# Altium footprint library G6K-2F-Y-DC5.PcbLib: 1 footprints
Each footprint in its own frame and in the unit in brackets; x right, y up, seen from the top. Pads: shape width x height; smd on the part's side, far side on the other; paste and mask are expansions set on the pad; w line width, h text height; cw(c..) or ccw(c..) is an arc to the next point about the centre after c.
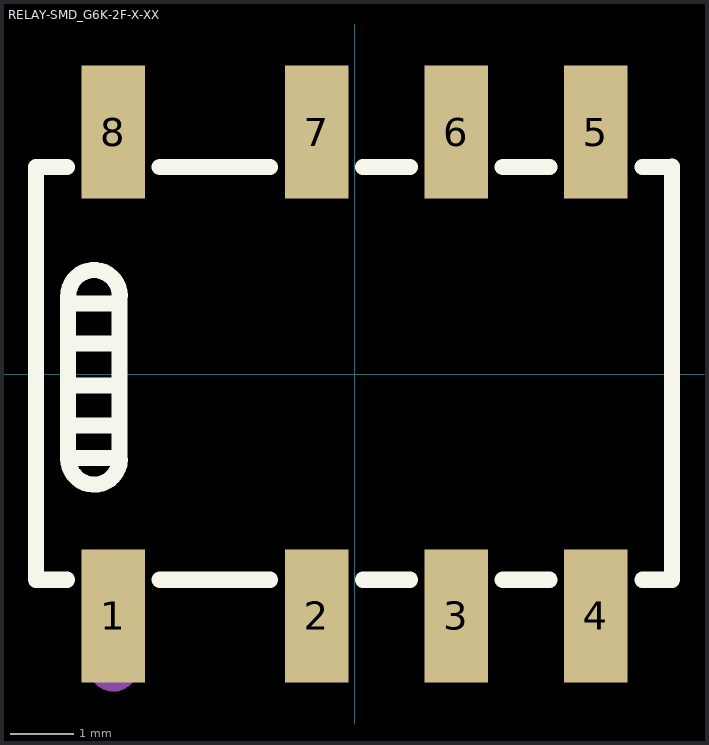
[diagram p0: the footprint, top view; thin cyan lines are the x and y axes]

## RELAY-SMD_G6K-2F-X-XX [mm]
pads (8):
  rect 1x2.1 smd: 1(-3.8,-3.81) 2(-0.6,-3.81) 3(1.6,-3.81) 4(3.8,-3.81) 5(3.8,3.81) 6(1.6,3.81) 7(-0.6,3.81) 8(-3.8,3.81)
Top Overlay:
  lines w0.254: -4.531,-3.24 -5.02,-3.24 -5.02,3.26 -4.531,3.26 ; -4.514,-1.295 -4.514,1.195 ; -4.51,-1.35 -4.51,-1.32 -3.76,-1.32 -3.73,-1.32 ; -4.51,-0.81 -3.73,-0.81 ; -4.51,-0.18 -3.73,-0.18 ; -4.51,1.11 -3.76,1.11 -3.73,1.14 ; -4.509,-1.326 ccw(c-4.103,-1.337) -3.698,-1.354 ; -4.509,1.232 cw(c-4.103,1.232) -3.698,1.232 ; -4.48,0.48 -3.73,0.48 ; -3.704,-1.355 -3.704,1.195 ; -3.069,-3.24 -1.331,-3.24 ; -3.069,3.26 -1.331,3.26 ; 0.131,-3.24 0.869,-3.24 ; 0.131,3.26 0.869,3.26 ; 2.331,-3.24 3.069,-3.24 ; 2.331,3.26 3.069,3.26 ; 4.531,-3.24 5,-3.24 ; 4.531,3.26 5,3.26 ; 5,-3.23 5,3.27
Mechanical 15:
  circle w0.4: c-3.8,-4.6 r0.2